# Altium schematic symbol library BMG250.SchLib: 1 symbol
Pins are listed as number, name and electrical type; pins without a type are passive.

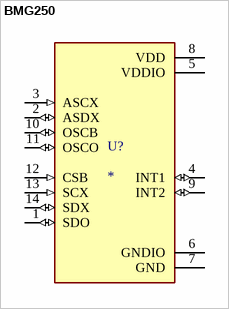
[diagram p0: symbol BMG250]

## BMG250
designator U?
BMG250 Series 3.6 V 3200 Hz 850 ÂµA Low Noise Low Power Triaxial Gyroscope-LGA-14; MF: {'manufacturer': u'Bosch'}; MP: BMG250; Package: None; Price: None; Value: *; Availability: Unavailable
footprint XDCR_BMG250
pins: 1 SDO (io), 2 ASDX (io), 3 ASCX (in), 4 INT1 (io), 5 VDDIO (power), 6 GNDIO (power), 7 GND (power), 8 VDD (power), 9 INT2 (io), 10 OSCB (io), 11 OSCO (io), 12 CSB (in), 13 SCX (in), 14 SDX (io)